# EAGLE library part CH375B (library pixel)
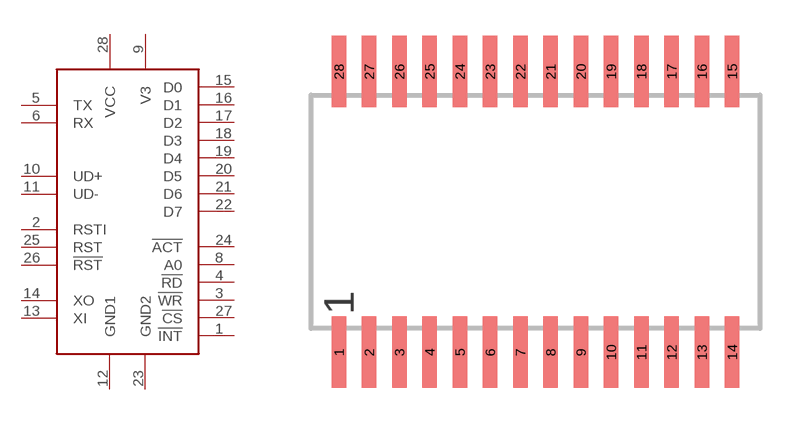
[diagram p1: symbol with the pads of SOP28-LL; footprint SOP28-LL]

Designator prefix -

## CH375B  [SOP28-LL]
1  !INT
2  RSTI
3  !WR
4  !RD
5  TX
6  RX
8  A0
9  V3
10  UD+
11  UD-
12  GND1
13  XI
14  XO
15  D0
16  D1
17  D2
18  D3
19  D4
20  D5
21  D6
22  D7
23  GND2
24  !ACT
25  RST
26  !RST
27  !CS
28  VCC

## Footprint SOP28-LL (pad centres in mm)
SMALL OUTLINE PACKAGE
smd 0.6 x 3: 1 -8.255,-5.9; 2 -6.985,-5.9; 3 -5.715,-5.9; 4 -4.445,-5.9; 5 -3.175,-5.9; 6 -1.905,-5.9; 7 -0.635,-5.9; 8 0.635,-5.9; 9 1.905,-5.9; 10 3.175,-5.9; 11 4.445,-5.9; 12 5.715,-5.9; 13 6.985,-5.9; 14 8.255,-5.9; 15 8.255,5.9; 16 6.985,5.9; 17 5.715,5.9; 18 4.445,5.9; 19 3.175,5.9; 20 1.905,5.9; 21 0.635,5.9; 22 -0.635,5.9; 23 -1.905,5.9; 24 -3.175,5.9; 25 -4.445,5.9; 26 -5.715,5.9; 27 -6.985,5.9; 28 -8.255,5.9